# Altium schematic symbol library SP3401-02UTG.SchLib: 1 symbol
Pins are listed as number, name and electrical type; pins without a type are passive.

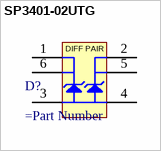
[diagram p0: symbol SP3401-02UTG]

## SP3401-02UTG
designator D?
=Description
pins: 1, 2, 3, 4, 5, 6
text: DIFF PAIR